# Altium schematic symbol library SCT8-Board.SCHLIB: 149 symbols (part 2 of 4)
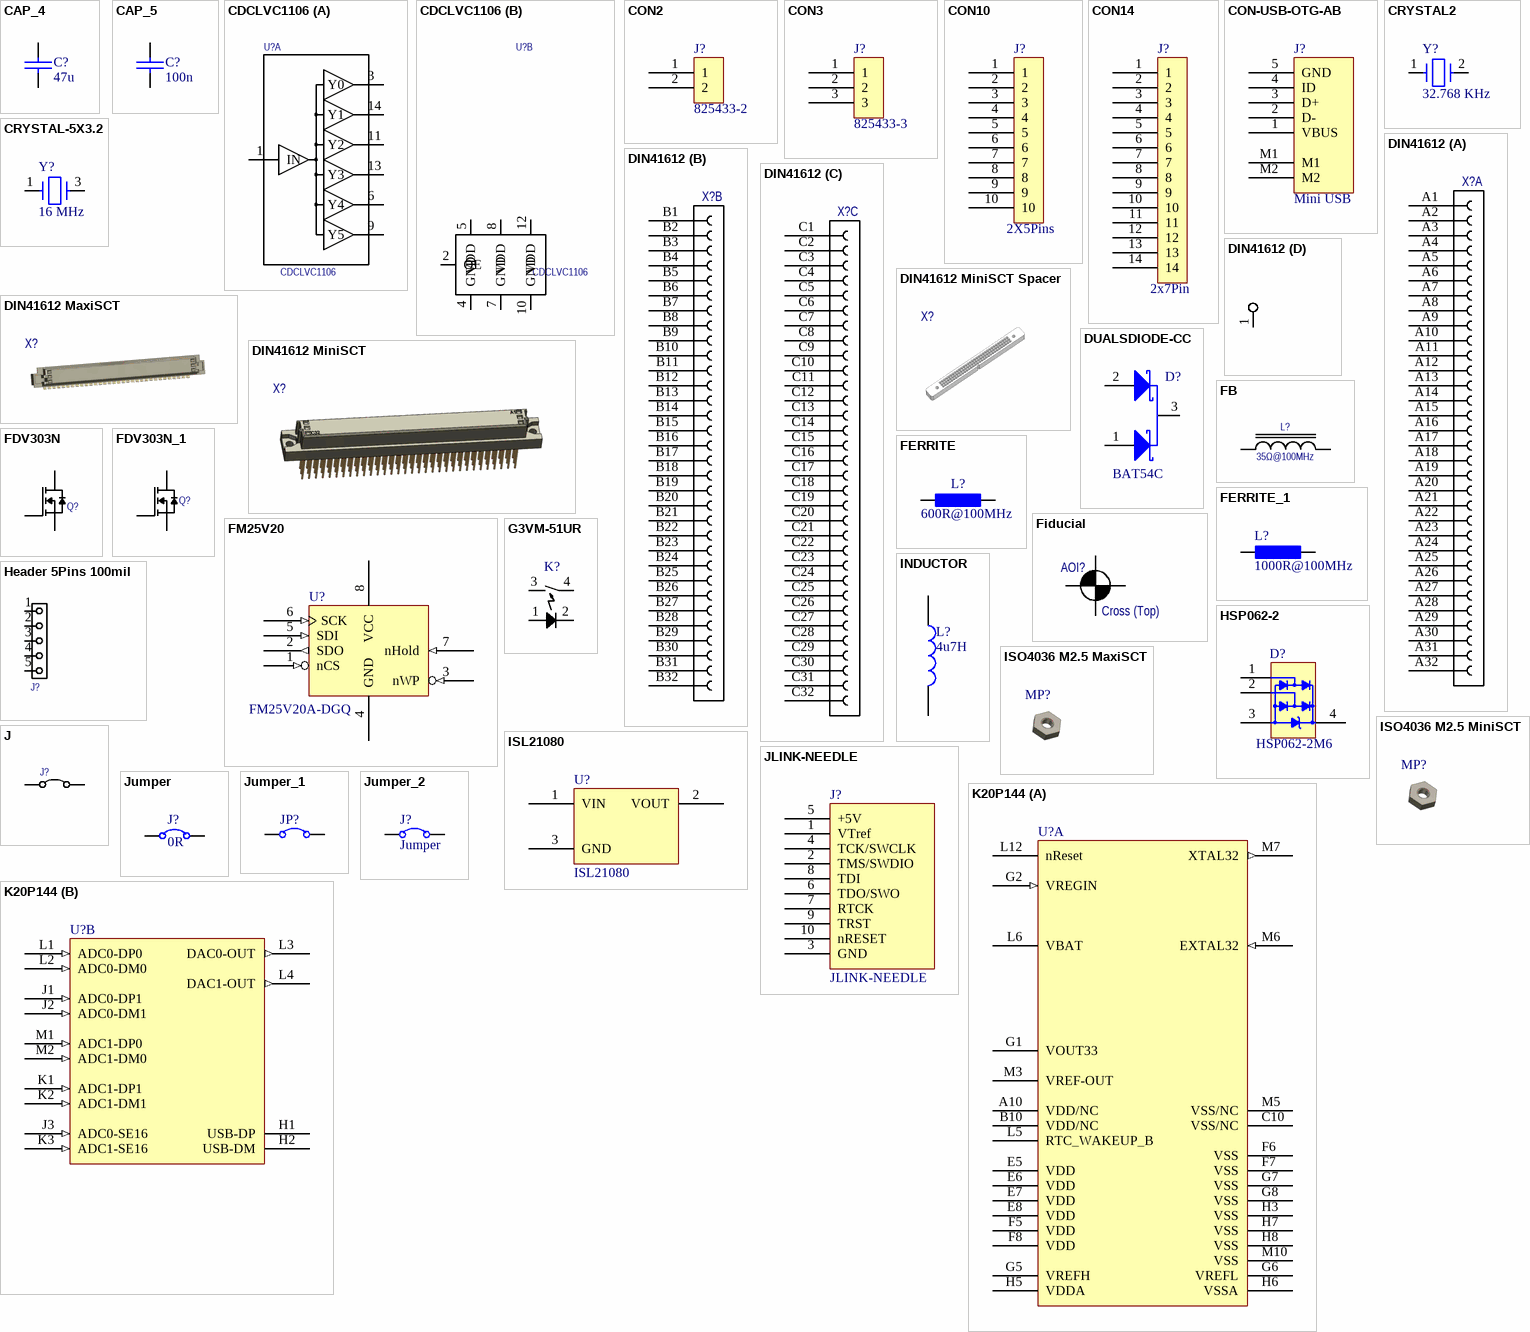
[diagram p18: symbols CAP_4 to K20P144]

## DIN41612 MaxiSCT
designator X?, comment X  (value not drawn)
DIN-SIGNAL R096FS-3,0C1-2; 04. Manufacturer: Harting; 07. Manufacturer  Part Number: 09732966801; 03. Unit Price: 4.33; 13. Created Date/Name: NOV2018 / Hören; System: Connector; 3D-Export: Yes; 01. Distributor: DigiKey; 02. Distributor Part Number: 1195-2893-ND; 11. RoHS: YES; ComponentLink1Description: Info; ComponentLink1URL: https://www.digikey.de/product-detail/en/harting/09732966801/1195-2893-ND/3181477; ComponentLink2Description: DataSheet; ComponentLink2URL: https://b2b.harting.com/files/download/PRD/PDF_TS/0973296X801_100104712DRW068A.pdf
footprint DIN 41612 MaxiSCT (09732966801)

## DIN41612 MiniSCT
designator X?, comment X  (value not drawn)
DIN-SIGNAL C096FPW-13,2C1-1; 04. Manufacturer: Harting; 07. Manufacturer  Part Number: 09032962861; 03. Unit Price: 8.81; 13. Created Date/Name: NOV2018 / Hören; System: Connector; 3D-Export: Yes; 01. Distributor: DigiKey; 02. Distributor Part Number: 1195-1192-ND; 09. Operating Temperature: -40°C ~ 105°C; 11. RoHS: YES; ComponentLink1Description: Info; ComponentLink1URL: https://www.digikey.de/products/en?keywords=09032962861; ComponentLink2Description: DataSheet; ComponentLink2URL: https://b2b.harting.com/files/download/PRD/PDF_TS/0903296X861_100072194DRW085D.pdf
footprint DIN 41612 MiniSCT (09032962861)

## DIN41612 MiniSCT Spacer
designator X?, comment X  (value not drawn)
DIN-SIGNAL C096FPW-13,2C1-1 Spacer; 04. Manufacturer: Likom; 03. Unit Price: 1; 13. Created Date/Name: NOV2018 / Hören; 3D-Export: Yes; 01. Distributor: N/A; 11. RoHS: YES; ComponentLink1Description: Info; ComponentLink1URL: https://www.digikey.de/products/en?keywords=09032962861; ComponentLink2Description: DataSheet; ComponentLink2URL: https://b2b.harting.com/files/download/PRD/PDF_TS/0903296X861_100072194DRW085D.pdf
footprint DIN 41612 MiniSCT Spacer (09032962861)

## DUALSDIODE-CC
designator D?, comment 07. Manufacturer  Part Number: BAT54C  (hidden comment: D)
DIODE ARRAY SCHOTTKY 30V SOT23-3; 04. Manufacturer: ON Semiconductor; POPULATED: yes; 03. Unit Price: 0.23; 3D-Export: No; Temperature Range: -55°C ~ 150°C; 01. Distributor: DigiKey; 02. Distributor Part Number: BAT54CFSCT-ND; 09. Operating Temperature: -55°C ~ 150°C; 11. RoHS: YES; ComponentLink4Description: Info; ComponentLink4URL: https://www.digikey.de/product-detail/en/on-semiconductor/BAT54C/BAT54CFSCT-ND/458929; ComponentLink5Description: DataSheet; ComponentLink5URL: https://media.digikey.com/pdf/Data%20Sheets/ON%20Semiconductor%20PDFs/BAT54(A,C,S).pdf
footprint SOT23
pins: 1 A, 2 K, 3 C

## FB
designator L?, comment value 35Ω@100MHz  (hidden comment: L)
FERRITE BEAD 50 OHM 1206 1LN; 04. Manufacturer: Murata Electronics North America; 07. Manufacturer  Part Number: BLM31PG500SN1L; DC Resistance: 15mΩ; Impedance Tolerance: %; 03. Unit Price: 0.28; 13. Created Date/Name: AUG2018/Hören; 3D-Export: No; Nominal Impedance: 35Ω@100MHz; ComponentLink1Description: Info; ComponentLink1URL: https://www.digikey.de/product-detail/en/murata-electronics-north-america/BLM31PG500SN1L/490-1055-6-ND/1826162; ComponentLink2Description: DataSheet; ComponentLink2URL: https://www.murata.com/en-us/products/productdata/8796739698718/ENFA0006.pdf; 02. Distributor Part Number: 490-1055-6-ND; 09. Operating Temperature: -55°C ~ 125°C; 11. RoHS: YES; 01. Distributor: DigiKey
footprint INDC1206
pins: 1, 2

## FDV303N
designator Q?, comment Q  (value not drawn)
MOSFET N-CH 25V 680MA SOT-23; 04. Manufacturer: ON Semiconductor; 07. Manufacturer  Part Number: FDV303N; 03. Unit Price: 0.41; 13. Created Date/Name: AUG 2018 / Hören; Rds On: 450 mΩ @ id=500mA & Vgs=4.5V; Vgs,th: 1.5V @ 250uA; Power Rating: 350mW; 3D-Export: No; 01. Distributor: DigiKey; 02. Distributor Part Number: FDV303NDKR-ND; 09. Operating Temperature: -55°C ~ 150°C (TJ); 11. RoHS: YES; ComponentLink1Description: Info; ComponentLink1URL: https://www.digikey.de/product-detail/en/on-semiconductor/FDV303N/FDV303NDKR-ND/1630434; ComponentLink2Description: DataSheet; ComponentLink2URL: https://media.digikey.com/pdf/Data%20Sheets/Fairchild%20PDFs/FDV303N.pdf; Vdss: 25V; Id: 680mA
footprint SOT23-3
pins: 1 G, 2 S, 3 D

## FDV303N_1
designator Q?, comment Q  (value not drawn)
MOSFET N-CH 25V 680MA SOT-23; 04. Manufacturer: ON Semiconductor; 07. Manufacturer  Part Number: FDV303N; 03. Unit Price: 0.41; 13. Created Date/Name: AUG 2018 / Hören; Rds On: 450 mΩ @ id=500mA & Vgs=4.5V; Vgs,th: 1.5V @ 250uA; Power Rating: 350mW; 3D-Export: No; 01. Distributor: DigiKey; 02. Distributor Part Number: FDV303NDKR-ND; 09. Operating Temperature: -55°C ~ 150°C (TJ); 11. RoHS: YES; ComponentLink1Description: Info; ComponentLink1URL: https://www.digikey.de/product-detail/en/on-semiconductor/FDV303N/FDV303NDKR-ND/1630434; ComponentLink2Description: DataSheet; ComponentLink2URL: https://media.digikey.com/pdf/Data%20Sheets/Fairchild%20PDFs/FDV303N.pdf; Vdss: 25V; Id: 680mA
footprint SOT23-3
pins: 1 G, 2 S, 3 D

## FERRITE
designator L?, comment value 600R@100MHz  (hidden comment: L)
FERRITE BEAD 600 OHM 0805 1LN; MFR-PN: 742792040; MFR: WUERTH; 04. Manufacturer: Wurth Electronics Inc.; POPULATED: yes; PARAMETERS: Idc=2A, Rdc=0.15R; 03. Unit Price: 0.21; 3D-Export: No; Temperature Range: -55°C ~ 125°C; 07. Manufacturer  Part Number: 742792040; 01. Distributor: DigiKey; 02. Distributor Part Number: 732-1620-6-ND; 09. Operating Temperature: -55°C ~ 125°C; 11. RoHS: YES; ComponentLink4Description: Info; ComponentLink4URL: https://www.digikey.de/products/en/filters/ferrite-beads-and-chips/841?k=742792040&k=&pkeyword=742792040&sv=0&pv7=243&sf=0&quantity=&ColumnSort=0&page=1&pageSize=25; ComponentLink5Description: DataSheet; ComponentLink5URL: https://katalog.we-online.de/pbs/datasheet/742792040.pdf
footprint INDC0805
pins: 1, 2

## FERRITE_1
designator L?, comment 1000R@100MHz
Ferrite Bead; MFR-PN: 742792040; MFR: WUERTH; 04. Manufacturer: Wurth Electronics Inc.; POPULATED: yes; PARAMETERS: I=2A, RDC=0.15R; 07. Manufacturer  Part Number: 742792040
footprint INDC0805
pins: 1, 2

## Fiducial
designator AOI?  Shape: Cross (Top)  (hidden comment: Fiducial)  (no BOM)
Assembly AOI; 13. Created Date/Name: AUG2018/Hören; 3D-Export: No; 01. Distributor: N/A; 02. Distributor Part Number: N/A; 03. Unit Price: N/A; 04. Manufacturer: N/A; 05. Quantity: N/A; 06. Data Sheet: N/A; 07. Manufacturer  Part Number: N/A; 08. Inhouse Stock: N/A; 09. Operating Temperature: N/A; 10. Weight: N/A; 11. RoHS: N/A; 12.UL94 Flammability: N/A; ComponentLink1Description: Info; ComponentLink2Description: Info; ComponentLink3Description: FootPrint
footprint Fiducial Cross
footprint Fiducial Point

## FM25V20
designator U?, comment 07. Manufacturer  Part Number: FM25V20A-DGQ  (hidden comment: U)
IC FRAM 2M SPI 40MHZ 8TDFN; MFR: CYPRESS; 04. Manufacturer: Cypress Semiconductor Corp; POPULATED: yes; 03. Unit Price: 15.14; 3D-Export: No; MFR-PN: FM25V20A-DGQ; Temperature Range: -40°C/+85°C; 01. Distributor: DigiKey; 02. Distributor Part Number: 428-3378-5-ND; 09. Operating Temperature: -40°C ~ 105°C (TA); 11. RoHS: YES; ComponentLink4Description: Info; ComponentLink4URL: https://www.digikey.de/product-detail/en/cypress-semiconductor-corp/FM25V20A-DGQ/428-3378-5-ND/5113877; ComponentLink5Description: DataSheet; ComponentLink5URL: https://www.cypress.com/file/136076/download
footprint TDFN8
pins: 1 nCS (in), 2 SDO (out), 3 nWP (in), 4 GND (power), 5 SDI (in), 6 SCK (in), 7 nHold (in), 8 VCC (power)

## G3VM-51UR
designator K?, comment K  (value not drawn)
SSR RELAY SPST-NO 300MA 0-50V; 04. Manufacturer: Omron Electronics Inc-EMC Div; 07. Manufacturer  Part Number: G3VM-51UR(TR05); 03. Unit Price: 5.6; 01. Distributor: DigiKey; 02. Distributor Part Number: Z4385TR-ND; ComponentLink1Description: Info; ComponentLink1URL: https://www.digikey.de/product-detail/de/omron-electronics-inc-emc-div/G3VM-51UR-TR05/Z4385TR-ND/5039690; ComponentLink2Description: DataSheet; ComponentLink2URL: https://omronfs.omron.com/en_US/ecb/products/pdf/g3vm_41ur10_51ur.pdf
footprint VSON4 (Very Small Outline Non-leaded 4 terminals)
pins: 1 +, 2 -, 3 CA, 4 CB

## Header 5Pins 100mil
designator J?, comment J  (value not drawn)
CONN HEADER VERT 5POS 2.54MM; 04. Manufacturer: Samtec Inc.; 07. Manufacturer  Part Number: HMTSW-105-07-G-S-240; 03. Unit Price: 0.42; 13. Created Date/Name: AUG2018/Hören; 3D-Export: No; 01. Distributor: Samtec Inc.; 02. Distributor Part Number: HMTSW-105-07-G-S-240; 11. RoHS: YES; ComponentLink1Description: Info; ComponentLink1URL: https://www.samtec.com/products/hmtsw-105-07-g-s-240; ComponentLink2Description: DataSheet; ComponentLink2URL: http://suddendocs.samtec.com/catalog_english/hmtsw.pdf
footprint Header 100mil 5x1 (HMTSW-105-07-G-S-240)
pins: 1, 2, 3, 4, 5

## HSP062-2
designator D?, comment 07. Manufacturer  Part Number: HSP062-2M6  (hidden comment: D)
TVS DIODE 3V 18V 6UQFN; MFR: ST; 04. Manufacturer: STMicroelectronics; POPULATED: yes; 03. Unit Price: 0.243; 3D-Export: No; MFR-PN: HSP062-2M6; 01. Distributor: DigiKey; 02. Distributor Part Number: 497-12962-6-ND; 09. Operating Temperature: -40°C ~ 150°C (TJ); 11. RoHS: YES; ComponentLink4Description: Info; ComponentLink4URL: https://www.digikey.de/products/en/circuit-protection/tvs-diodes/144?k=HSP062-2M6&k=&pkeyword=HSP062-2M6&sv=0&pv7=243&sf=0&quantity=&ColumnSort=0&page=1&pageSize=25; ComponentLink5Description: DataSheet; ComponentLink5URL: https://www.st.com/content/ccc/resource/technical/document/datasheet/90/b8/52/a8/c1/74/40/7f/DM00047941.pdf/files/DM00047941.pdf/jcr:content/translations/en.DM00047941.pdf
footprint ST-uQFN6 (Footprint not found)
pins: 1 I/O1, 2 I/O2, 3 I/O1, 4 VBUS

## INDUCTOR
designator L?, comment value 4u7H  (hidden comment: L)
FIXED IND 4.7UH 2.8A 65 MOHM SMD; MFR-PN: 7447786004; MFR: WUERTH; 04. Manufacturer: Wurth Electronics Inc.; POPULATED: yes; Parameters: Isat=2.8A, Idc=2.8A, DRC=65mR; 03. Unit Price: 2.33; 3D-Export: No; 01. Distributor: DigiKey; 02. Distributor Part Number: 732-3296-6-ND; 07. Manufacturer  Part Number: 7447786004; 09. Operating Temperature: -40°C ~ 125°C; 11. RoHS: YES; ComponentLink1Description: Info; ComponentLink1URL: https://www.digikey.de/products/en/inductors-coils-chokes/fixed-inductors/71?k=7447786004&k=&pkeyword=7447786004&sv=0&pv7=243&sf=0&quantity=&ColumnSort=0&page=1&pageSize=25; ComponentLink2Description: DataSheet; ComponentLink2URL: https://katalog.we-online.de/pbs/datasheet/7447786004.pdf
footprint WE-PD-XS
pins: 1, 2

## ISL21080
designator U?, comment NicName: ISL21080  (hidden comment: U)
IC VREF SERIES 1.25V SOT23-3; MFR-PN: ISL21080DIH312Z-TK; MFR: Intersil; 04. Manufacturer: Renesas Electronics America Inc.; POPULATED: yes; 03. Unit Price: 1.43; 3D-Export: No; Temperature Range: -40°C/+85°C; 01. Distributor: DigiKey; 02. Distributor Part Number: ISL21080DIH312Z-TKDKR-ND; 07. Manufacturer  Part Number: ISL21080DIH312Z-TK; 09. Operating Temperature: -40°C ~ 85°C (TA); 11. RoHS: YES; ComponentLink4Description: Info; ComponentLink4URL: https://www.digikey.de/products/en/integrated-circuits-ics/pmic-voltage-reference/693?k=ISL21080DIH312Z-TK&k=&pkeyword=ISL21080DIH312Z-TK&sv=0&pv7=243&sf=0&quantity=&ColumnSort=0&page=1&pageSize=25; ComponentLink5Description: DataSheet; ComponentLink5URL: http://www.intersil.com/content/dam/Intersil/documents/isl2/isl21080.pdf
footprint SOT23
pins: 1 VIN (power), 2 VOUT (hiz), 3 GND (power)

## ISO4036 M2.5 MaxiSCT
designator MP?  (value not drawn)
ISO4036 M2.5; 04. Manufacturer: Likom; 07. Manufacturer  Part Number: ISO4036_M2.5; 03. Unit Price: 1
footprint ISO4036 M2.5 - MaxiSCT

## ISO4036 M2.5 MiniSCT
designator MP?  (value not drawn)
ISO4036 M2.5; 04. Manufacturer: Likom; 07. Manufacturer  Part Number: ISO4036_M2.5; 03. Unit Price: 1
footprint ISO4036 M2.5 - MINISCT

## J
designator J?  (value not drawn)
Jumper; Power Rating: 1/16W; Voltage Rating: 50V; Value: 0; ComponentLink1Description: Info; 09. Operating Temperature: -55°C ~ 155°C; 11. RoHS: YES; 01. Distributor: DigiKey; ComponentLink2Description: DataSheet; Type: Thick Film; Temperature Range: -55°C/+125°C; Package: pkg
simulation model RESISTOR (Resistor)
signal-integrity model Res
footprint RESC0201 (Chip Resistor, Body 0.6x0.3mm (LxW typ) [0201], IPC High Density)
footprint RESC0402 (Chip Resistor, Body 1.1x0.5mm (LxW typ) [0402], IPC High Density)
footprint RESC0603 (Chip Resistor, Body 1.6x0.8mm (LxW typ) [0603], IPC High Density)
footprint RESC0805 (Chip Resistor, Body 2.0x1.3mm (LxW typ) [0805], IPC High Density)
footprint RESC1206 (Chip Resistor, Body 3.2x1.6mm (LxW typ) [1206], IPC High Density)
pins: 1, 2

## JLINK-NEEDLE
designator J?, comment NicName: JLINK-NEEDLE  (hidden comment: J)  (no BOM)
10-PIN NEEDLE FOOTPRINT; POPULATED: yes; 3D-Export: No; ComponentLink4Description: Info; ComponentLink4URL: https://www.digikey.de/product-detail/en/segger-microcontroller-systems/8.06.05-10-PIN-NEEDLE-ADAPTER/8.06.0510-PINNEEDLEADAPTER-ND/3202465; ComponentLink5Description: DataSheet; ComponentLink5URL: https://www.segger.com/products/debug-probes/j-link/accessories/adapters/6-pin-needle-adapter/#tab-1647-4
footprint JLINK-NEEDLE
pins: 1 VTref, 2 TMS/SWDIO, 3 GND, 4 TCK/SWCLK, 5 +5V, 6 TDO/SWO, 7 RTCK, 8 TDI, 9 TRST, 10 nRESET

## Jumper
designator J?, comment value 0R  (hidden comment: J)
RES SMD 0 OHM JUMPER 1/10W 0603; 04. Manufacturer: Yageo; 07. Manufacturer  Part Number: RC0603JR-070RL; POPULATED: yes; 03. Unit Price: 0.09; 3D-Export: No; 01. Distributor: DigiKey; 02. Distributor Part Number: 311-0.0GRDKR-ND; 09. Operating Temperature: -55°C ~ 155°C; 11. RoHS: YES; ComponentLink4Description: Info; ComponentLink4URL: https://www.digikey.de/product-detail/en/yageo/RC0603JR-070RL/311-0.0GRDKR-ND/732569; ComponentLink5Description: DataSheet; ComponentLink5URL: http://www.yageo.com/documents/recent/PYu-RC_Group_51_RoHS_L_10.pdf
footprint JumperSMD_0603 (Chip Resistor, Body 1.6x0.8mm (LxW typ), IPC High Density)
pins: 1, 2

## Jumper_1
designator JP?, comment Jumper  (value not drawn)  (no BOM)
MFR-PN: 825433-2; MFR: TYCO; POPULATED: yes
footprint JumperSMD (Chip Resistor, Body 1.6x0.8mm (LxW typ), IPC High Density)
pins: 1, 2

## Jumper_2
designator J?, comment Jumper  (no BOM)
POPULATED: yes
footprint TSW-1X2
footprint JumperSMD
pins: 1, 2

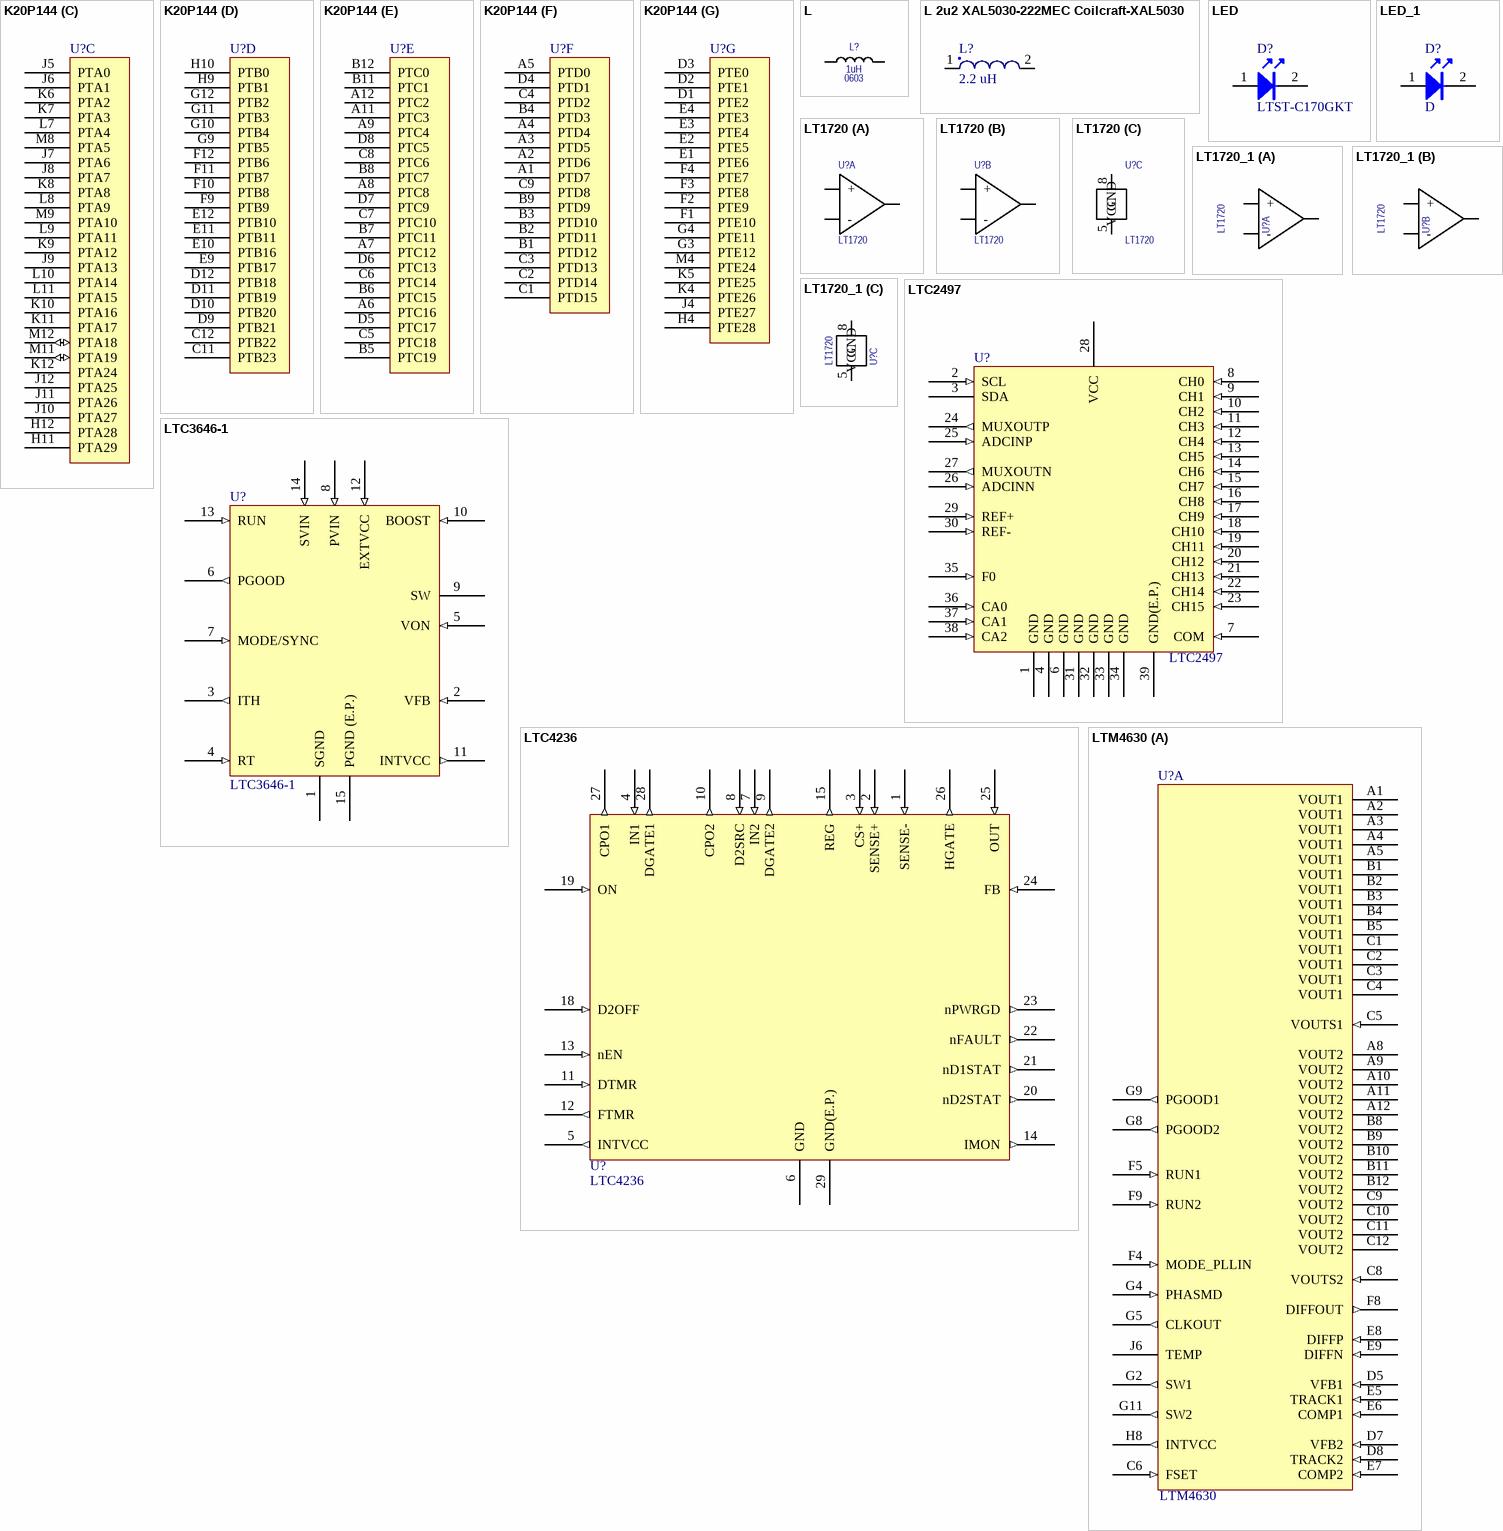
[diagram p5: symbols K20P144 to LTM4630]

## K20P144
designator U?
IC MCU 32BIT 512KB FLASH 144BGA; MFR-PN: MK20DN512VMD10; MFR: FREESCALE; 04. Manufacturer: NXP USA Inc.; POPULATED: yes; 03. Unit Price: 10.27; 3D-Export: No; 01. Distributor: DigiKey; 02. Distributor Part Number: MK20DN512VMD10-ND; 07. Manufacturer  Part Number: MK20DN512VMD10; 09. Operating Temperature: -40°C ~ 105°C (TA); 11. RoHS: YES
footprint MAPBGA144 (NXP BGA, 144-Leads, Body 13.00x13.00mmx1.70mm, Pitch 1.00mm (Document No: 98ASA00222D))
part A pins: A10 VDD/NC, B10 VDD/NC, C10 VSS/NC, E5 VDD (power), E6 VDD (power), E7 VDD (power), E8 VDD (power), F5 VDD (power), F6 VSS (power), F7 VSS (power), F8 VDD (power), G1 VOUT33, G2 VREGIN (in), G5 VREFH (power), G6 VREFL (power), G7 VSS (power), G8 VSS (power), H3 VSS (power), H5 VDDA (power), H6 VSSA (power), H7 VSS (power), H8 VSS (power), L5 RTC_WAKEUP_B, L6 VBAT (power), L12 nReset, M3 VREF-OUT, M5 VSS/NC, M6 EXTAL32 (in), M7 XTAL32 (out), M10 VSS (power)
part B pins: H1 USB-DP (hiz), H2 USB-DM (hiz), J1 ADC0-DP1 (in), J2 ADC0-DM1 (in), J3 ADC0-SE16 (in), K1 ADC1-DP1 (in), K2 ADC1-DM1 (in), K3 ADC1-SE16 (in), L1 ADC0-DP0 (in), L2 ADC0-DM0 (in), L3 DAC0-OUT (out), L4 DAC1-OUT (out), M1 ADC1-DP0 (in), M2 ADC1-DM0 (in)
part C pins: H11 PTA29 (hiz), H12 PTA28 (hiz), J5 PTA0 (hiz), J6 PTA1 (hiz), J7 PTA6 (hiz), J8 PTA7 (hiz), J9 PTA13 (hiz), J10 PTA27 (hiz), J11 PTA26 (hiz), J12 PTA25 (hiz), K6 PTA2 (hiz), K7 PTA3 (hiz), K8 PTA8 (hiz), K9 PTA12 (hiz), K10 PTA16 (hiz), K11 PTA17 (hiz), K12 PTA24 (hiz), L7 PTA4 (hiz), L8 PTA9 (hiz), L9 PTA11 (hiz), L10 PTA14 (hiz), L11 PTA15 (hiz), M8 PTA5 (hiz), M9 PTA10 (hiz), M11 PTA19 (io), M12 PTA18 (io)
part D pins: C11 PTB23 (hiz), C12 PTB22 (hiz), D9 PTB21 (hiz), D10 PTB20 (hiz), D11 PTB19 (hiz), D12 PTB18 (hiz), E9 PTB17 (hiz), E10 PTB16 (hiz), E11 PTB11 (hiz), E12 PTB10 (hiz), F9 PTB9 (hiz), F10 PTB8 (hiz), F11 PTB7 (hiz), F12 PTB6 (hiz), G9 PTB5 (hiz), G10 PTB4 (hiz), G11 PTB3 (hiz), G12 PTB2 (hiz), H9 PTB1 (hiz), H10 PTB0 (hiz)
part E pins: A6 PTC16 (hiz), A7 PTC12 (hiz), A8 PTC8 (hiz), A9 PTC4 (hiz), A11 PTC3 (hiz), A12 PTC2 (hiz), B5 PTC19 (hiz), B6 PTC15 (hiz), B7 PTC11 (hiz), B8 PTC7 (hiz), B11 PTC1 (hiz), B12 PTC0 (hiz), C5 PTC18 (hiz), C6 PTC14 (hiz), C7 PTC10 (hiz), C8 PTC6 (hiz), D5 PTC17 (hiz), D6 PTC13 (hiz), D7 PTC9 (hiz), D8 PTC5 (hiz)
part F pins: A1 PTD7 (hiz), A2 PTD6 (hiz), A3 PTD5 (hiz), A4 PTD4 (hiz), A5 PTD0 (hiz), B1 PTD12 (hiz), B2 PTD11 (hiz), B3 PTD10 (hiz), B4 PTD3 (hiz), B9 PTD9 (hiz), C1 PTD15 (hiz), C2 PTD14 (hiz), C3 PTD13 (hiz), C4 PTD2 (hiz), C9 PTD8 (hiz), D4 PTD1 (hiz)
part G pins: D1 PTE2 (hiz), D2 PTE1 (hiz), D3 PTE0 (hiz), E1 PTE6 (hiz), E2 PTE5 (hiz), E3 PTE4 (hiz), E4 PTE3 (hiz), F1 PTE10 (hiz), F2 PTE9 (hiz), F3 PTE8 (hiz), F4 PTE7 (hiz), G3 PTE12 (hiz), G4 PTE11 (hiz), H4 PTE28 (hiz), J4 PTE27 (hiz), K4 PTE26 (hiz), K5 PTE25 (hiz), M4 PTE24 (hiz)

## L
designator L?  value 1uH  Package: 0603  (hidden comment: L)
FIXED IND 1UH ±5% 280MA 940 MOHM 0603; 04. Manufacturer: Abracon LLC; 07. Manufacturer  Part Number: AISC-0603F-1R0J-T; DC Resistance: 940mΩ; 03. Unit Price: 0.33; ComponentLink1Description: Info; ComponentLink1URL: https://www.digikey.de/product-detail/en/abracon-llc/AISC-0603F-1R0J-T/535-AISC-0603F-1R0J-TDKR-ND/11565402; ComponentLink2Description: DataSheet; 02. Distributor Part Number: 535-AISC-0603F-1R0J-TDKR-ND; 09. Operating Temperature: -55°C ~ 85°C; 11. RoHS: YES; 01. Distributor: DigiKey; Tolerance: ±5%
footprint INDC0603
footprint INDC0805
footprint INDC1206
pins: 1, 2

## L 2u2 XAL5030-222MEC Coilcraft-XAL5030
designator L?, comment 2.2 uH
Shielded Power Inductor XAL5030, L=2.2 µH; MFR-PN: XAL5030-222MEC; MFR: Coilcraft; partnumber: 20081302; Parameters: Ir=7.2A, Isat=6A(10%), Rdc=14.5mR; reviewer: koa; T op max.: +125 °C; T op min.: -40 °C; T sto max.: +165 °C; T sto min.: -55 °C; created by: Moerz; package: Coilcraft-XAL5030; articlenumber-schoelly: N/A; Value: 2.2 uH; ComponentLink1Description: Datasheet; ComponentLink1URL: https://www.coilcraft.com/getmedia/49bc46c8-4b2c-45b9-9b6c-2eaa235ea698/xal50xx.pdf; Supplier 1: Mouser; Supplier Part Number 1: 994-XAL5030-222MEC; 04. Manufacturer: Coilcraft; 07. Manufacturer  Part Number: XAL5030-222MEC
footprint Coilcraft-XAL5030
pins: 1, 2

## LED
designator D?, comment 07. Manufacturer  Part Number: LTST-C170GKT  (hidden comment: D)
LED GREEN CLEAR SMD; 04. Manufacturer: Lite-On Inc.; POPULATED: yes; 03. Unit Price: 0.29; 3D-Export: No; 01. Distributor: DigiKey; 02. Distributor Part Number: 160-1179-6-ND; 11. RoHS: YES; ComponentLink4Description: Info; ComponentLink4URL: https://www.digikey.de/products/en/optoelectronics/led-indication-discrete/105?k=LTST-C170GKT&k=&pkeyword=LTST-C170GKT&sv=0&pv7=243&sf=0&quantity=&ColumnSort=0&page=1&pageSize=25; ComponentLink5Description: DataSheet; ComponentLink5URL: https://media.digikey.com/pdf/Data%20Sheets/Lite-On%20PDFs/LTST-C170GKT.pdf
footprint LED0603G (LED, 0603, Green)
pins: 1 A, 2 K

## LED_1
designator D?, comment D
LED GREEN CLEAR SMD; MFR-PN: LTST-C190KGKT; MFR: LITEON; 04. Manufacturer: Lite-On Inc.; 07. Manufacturer  Part Number: LTST-C170GKT; POPULATED: yes; TempRange: -55*C - +85°C
footprint LED0603G (LED, 0603, Green)
pins: 1 A, 2 K

## LT1720
designator U?, comment NicName: LT1720  (hidden comment: U)
IC COMP R-RINOUT DUAL 8-SOIC; 04. Manufacturer: Linear Technology/Analog Devices; 07. Manufacturer  Part Number: LT1720IS8#TRPBF; 03. Unit Price: 7.15; 13. Created Date/Name: AUG 2018 / Hören; Design: AWGDIG; 3D-Export: No; 01. Distributor: DigiKey; 02. Distributor Part Number: LT1720IS8#TRPBFDKR-ND; 09. Operating Temperature: -40°C ~ 85°C; 11. RoHS: YES; ComponentLink1Description: Info; ComponentLink1URL: https://www.digikey.de/products/en/integrated-circuits-ics/linear-comparators/692?k=LT1720&k=&pkeyword=LT1720&pv7=243&sf=0&quantity=&ColumnSort=0&page=1&pageSize=25; ComponentLink2Description: DataSheet; ComponentLink2URL: https://www.analog.com/media/en/technical-documentation/data-sheets/17201fc.pdf
footprint SOIC8 (R-8) (Generic 8 lead SOIC Narrow Body)
part A pins: 1 +, 2 -, 7 OUTA
part B pins: 3 -, 4 +, 6 OUTB
part C pins: 5 GND, 8 VCC

## LT1720_1
designator U?, comment NicName: LT1720  (hidden comment: U)
IC COMP R-RINOUT DUAL 8-SOIC; 04. Manufacturer: Linear Technology/Analog Devices; 07. Manufacturer  Part Number: LT1720IS8#TRPBF; 03. Unit Price: 7.15; 13. Created Date/Name: AUG 2018 / Hören; Design: AWGDIG; 3D-Export: No; 01. Distributor: DigiKey; 02. Distributor Part Number: LT1720IS8#TRPBFDKR-ND; 09. Operating Temperature: -40°C ~ 85°C; 11. RoHS: YES; ComponentLink1Description: Info; ComponentLink1URL: https://www.digikey.de/products/en/integrated-circuits-ics/linear-comparators/692?k=LT1720&k=&pkeyword=LT1720&pv7=243&sf=0&quantity=&ColumnSort=0&page=1&pageSize=25; ComponentLink2Description: DataSheet; ComponentLink2URL: https://www.analog.com/media/en/technical-documentation/data-sheets/17201fc.pdf
footprint SOIC8 (R-8) (Generic 8 lead SOIC Narrow Body)
part A pins: 1 +, 2 -, 7 OUTA
part B pins: 3 -, 4 +, 6 OUTB
part C pins: 5 GND, 8 VCC

## LTC2497
designator U?, comment value LTC2497  (hidden comment: U)
16-Bit 8-/16-Channel SigmaDelta ADC with Easy Drive Input Current Cancellation and I2C Interface; MFR-PN: LTC2497IUHF#PBF; MFR: LINEAR; 04. Manufacturer: Analog Devices; 07. Manufacturer  Part Number: LTC2497IUHF#PBF  MAX6070BAUT25+T; POPULATED: yes; 3D-Export: No; 11. RoHS: YES; ComponentLink1Description: Info; ComponentLink2Description: DataSheet; ComponentLink2URL: https://www.analog.com/media/en/technical-documentation/data-sheets/2497fb.pdf
footprint LT-UHF38 (Footprint not found)
pins: 1 GND (power), 2 SCL (in), 3 SDA (hiz), 4 GND (power), 6 GND (power), 7 COM (in), 8 CH0 (in), 9 CH1 (in), 10 CH2 (in), 11 CH3 (in), 12 CH4 (in), 13 CH5 (in), 14 CH6 (in), 15 CH7 (in), 16 CH8 (in), 17 CH9 (in), 18 CH10 (in), 19 CH11 (in), 20 CH12 (in), 21 CH13 (in), 22 CH14 (in), 23 CH15 (in), 24 MUXOUTP (out), 25 ADCINP (in), 26 ADCINN (in), 27 MUXOUTN (out), 28 VCC (power), 29 REF+ (in), 30 REF- (in), 31 GND (power), 32 GND (power), 33 GND (power), 34 GND (power), 35 F0 (in), 36 CA0 (in), 37 CA1 (in), 38 CA2 (in), 39 GND(E.P.) (power)

## LTC3646-1
designator U?, comment NicName: LTC3646-1  (hidden comment: U)
IC REG BUCK ADJ 1A SYNC 14DFN; MFR-PN: LTC3646EDE-1#PBF; MFR: LINEAR; 04. Manufacturer: Linear Technology/Analog Devices; POPULATED: yes; 03. Unit Price: 6.13; 3D-Export: No; 01. Distributor: DigiKey; 02. Distributor Part Number: LTC3646EDE-1#PBF-ND; 07. Manufacturer  Part Number: LTC3646EDE-1#PBF; 09. Operating Temperature: -40°C ~ 150°C (TJ); 11. RoHS: YES; ComponentLink1Description: Info; ComponentLink1URL: https://www.digikey.de/products/en?keywords=LTC3646EDE-1%23PBF; ComponentLink2Description: DataSheet; ComponentLink2URL: http://www.linear.com/docs/42459
footprint DE14
pins: 1 SGND (power), 2 VFB (in), 3 ITH (out), 4 RT (in), 5 VON (in), 6 PGOOD (out), 7 MODE/SYNC (in), 8 PVIN (in), 9 SW (hiz), 10 BOOST (in), 11 INTVCC (out), 12 EXTVCC (in), 13 RUN (in), 14 SVIN (in), 15 PGND (E.P.) (power)

## LTC4236
designator U?, comment NicName: LTC4236  (hidden comment: U)
Dual Ideal Diode-OR and Single Hot Swap Controller with Current Monitor, Auto-Retry after Fault; MFR-PN: LTC4236IUFD-2#PBF; MFR: ANALOG DEVICES; 04. Manufacturer: Linear Technology/Analog Devices; 07. Manufacturer  Part Number: LTC4229IUFD#PBF; POPULATED: yes; 03. Unit Price: 8.97; Value: LTC4236; 3D-Export: No; 01. Distributor: Mouser; 02. Distributor Part Number: 584-LTC4236IUFD-2PBF; 09. Operating Temperature: -40°C ~ 85°C; 11. RoHS: YES; ComponentLink4Description: Info; ComponentLink5Description: DataSheet; ComponentLink5URL: https://www.analog.com/media/en/technical-documentation/data-sheets/4236f.pdf
footprint LT-UFD28-4mmx5mm (Footprint not found)
pins: 1 SENSE- (in), 2 SENSE+ (in), 3 CS+ (in), 4 IN1 (in), 5 INTVCC (out), 6 GND (power), 7 IN2 (in), 8 D2SRC (in), 9 DGATE2 (out), 10 CPO2 (out), 11 DTMR (in), 12 FTMR (out), 13 nEN (in), 14 IMON (out), 15 REG (out), 18 D2OFF (in), 19 ON (in), 20 nD2STAT (out), 21 nD1STAT (out), 22 nFAULT (out), 23 nPWRGD (out), 24 FB (in), 25 OUT (in), 26 HGATE (out), 27 CPO1 (out), 28 DGATE1 (out), 29 GND(E.P.) (power)

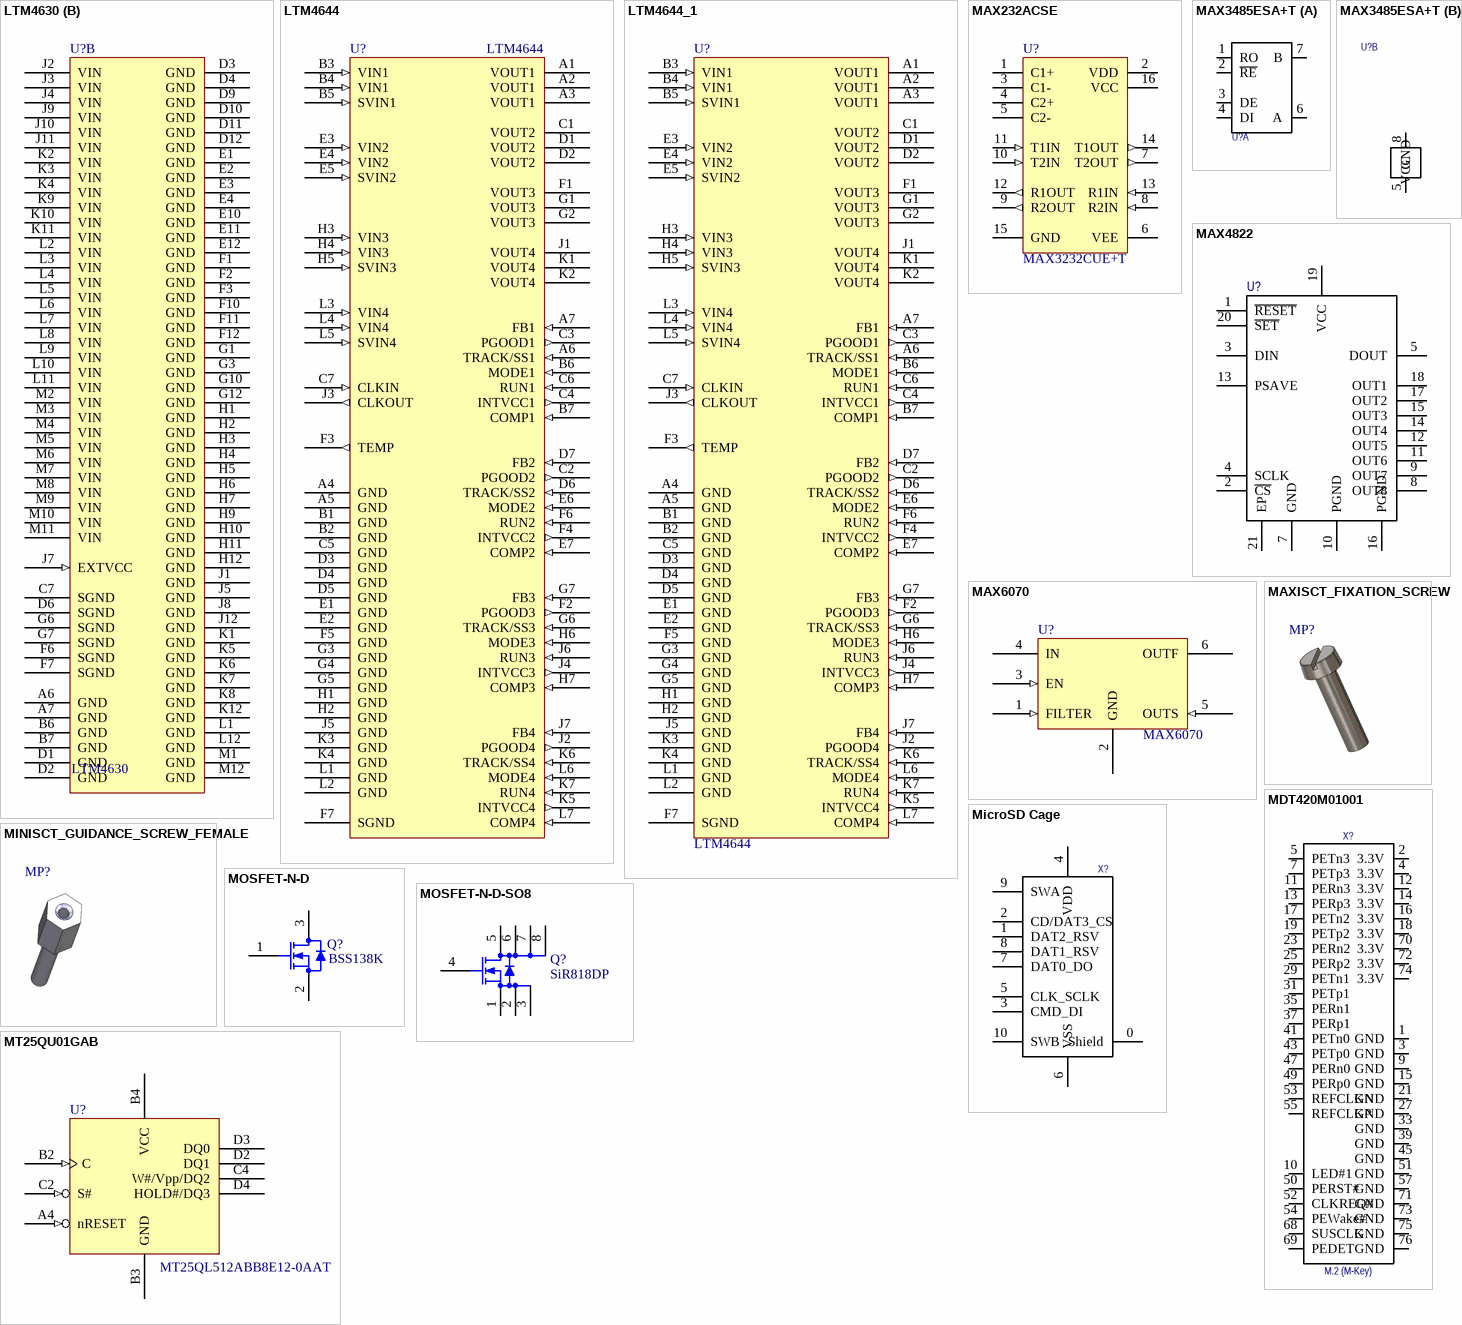
[diagram p6: symbols LTM4630 to MT25QU01GAB]

## LTM4630
designator U?, comment NicName: LTM4630  (hidden comment: U)
DC DC CNVRTR 0.6-1.8V 0.6-1.8V; MFR-PN: LTM4630EY#PBF; MFR: LINEAR TECHNOLOGY; 04. Manufacturer: Linear Technology/Analog Devices; STUFFED: yes; 03. Unit Price: 55.80; 3D-Export: No; 01. Distributor: DigiKey; 02. Distributor Part Number: LTM4630EY#PBF-ND; 07. Manufacturer  Part Number: LTM4630EY#PBF; 09. Operating Temperature: -40°C ~ 125°C; 11. RoHS: YES; ComponentLink4Description: Info; ComponentLink4URL: https://www.digikey.de/products/en?keywords=LTM4630EY%23PBF; ComponentLink5Description: DataSheet; ComponentLink5URL: https://www.analog.com/media/en/technical-documentation/data-sheets/4630fa.pdf
footprint LTM4630 (Footprint not found)
part A pins: A1 VOUT1 (power), A2 VOUT1 (power), A3 VOUT1 (power), A4 VOUT1 (power), A5 VOUT1 (power), A8 VOUT2 (power), A9 VOUT2 (power), A10 VOUT2 (power), A11 VOUT2 (power), A12 VOUT2 (power), B1 VOUT1 (power), B2 VOUT1 (power), B3 VOUT1 (power), B4 VOUT1 (power), B5 VOUT1 (power), B8 VOUT2 (power), B9 VOUT2 (power), B10 VOUT2 (power), B11 VOUT2 (power), B12 VOUT2 (power), C1 VOUT1 (power), C2 VOUT1 (power), C3 VOUT1 (power), C4 VOUT1 (power), C5 VOUTS1 (in), C6 FSET (in), C8 VOUTS2 (in), C9 VOUT2 (power), C10 VOUT2 (power), C11 VOUT2 (power), C12 VOUT2 (power), D5 VFB1 (in), D7 VFB2 (in), D8 TRACK2 (in), E5 TRACK1 (in), E6 COMP1 (in), E7 COMP2 (in), E8 DIFFP (in), E9 DIFFN (in), F4 MODE_PLLIN (in), F5 RUN1 (in), F8 DIFFOUT (out), F9 RUN2 (in), G2 SW1 (out), G4 PHASMD (in), G5 CLKOUT (out), G8 PGOOD2 (out), G9 PGOOD1 (out), G11 SW2 (out), H8 INTVCC (out), J6 TEMP
part B pins: A6 GND (power), A7 GND (power), B6 GND (power), B7 GND (power), C7 SGND (power), D1 GND (power), D2 GND (power), D3 GND (power), D4 GND (power), D6 SGND (power), D9 GND (power), D10 GND (power), D11 GND (power), D12 GND (power), E1 GND (power), E2 GND (power), E3 GND (power), E4 GND (power), E10 GND (power), E11 GND (power), E12 GND (power), F1 GND (power), F2 GND (power), F3 GND (power), F6 SGND (power), F7 SGND (power), F10 GND (power), F11 GND (power), F12 GND (power), G1 GND (power), G3 GND (power), G6 SGND (power), G7 SGND (power), G10 GND (power), G12 GND (power), H1 GND (power), H2 GND (power), H3 GND (power), H4 GND (power), H5 GND (power), H6 GND (power), H7 GND (power), H9 GND (power), H10 GND (power), H11 GND (power), H12 GND (power), J1 GND (power), J2 VIN (power), J3 VIN (power), J4 VIN (power), J5 GND (power), J7 EXTVCC (in), J8 GND (power), J9 VIN (power), J10 VIN (power), J11 VIN (power), J12 GND (power), K1 GND (power), K2 VIN (power), K3 VIN (power), K4 VIN (power), K5 GND (power), K6 GND (power), K7 GND (power), K8 GND (power), K9 VIN (power), K10 VIN (power), K11 VIN (power), K12 GND (power), L1 GND (power), L2 VIN (power), L3 VIN (power), L4 VIN (power), L5 VIN (power), L6 VIN (power), L7 VIN (power), L8 VIN (power), L9 VIN (power), L10 VIN (power), L11 VIN (power), L12 GND (power), M1 GND (power), M2 VIN (power), M3 VIN (power), M4 VIN (power), M5 VIN (power), M6 VIN (power), M7 VIN (power), M8 VIN (power), M9 VIN (power), M10 VIN (power), M11 VIN (power), M12 GND (power)

## LTM4644
designator U?, comment NicName: LTM4644  (hidden comment: U)
DC DC CONVERTER 4X0.6-5.5V; MFR-PN: LTM4644EY#PBF; MFR: LINEAR TECHNOLOGY; 04. Manufacturer: Linear Technology/Analog Devices; POPULATED: yes; 03. Unit Price: 39.30; 3D-Export: No; 01. Distributor: DigiKey; 02. Distributor Part Number: LTM4644EY#PBF-ND; 07. Manufacturer  Part Number: LTM4644EY#PBF; 09. Operating Temperature: -40°C ~ 125°C; 11. RoHS: YES; ComponentLink4Description: Info; ComponentLink4URL: https://www.digikey.de/products/en?keywords=LTM4644EY%23PBF; ComponentLink5Description: DataSheet; ComponentLink5URL: http://www.analog.com/media/en/technical-documentation/data-sheets/4644fe.pdf
footprint LTM4644 (Footprint not found)
pins: A1 VOUT1, A2 VOUT1, A3 VOUT1, A4 GND (power), A5 GND (power), A6 TRACK/SS1 (in), A7 FB1 (in), B1 GND (power), B2 GND (power), B3 VIN1 (in), B4 VIN1 (in), B5 SVIN1 (in), B6 MODE1 (in), B7 COMP1 (in), C1 VOUT2, C2 PGOOD2 (out), C3 PGOOD1 (out), C4 INTVCC1 (out), C5 GND (power), C6 RUN1 (in), C7 CLKIN (in), D1 VOUT2, D2 VOUT2, D3 GND (power), D4 GND (power), D5 GND (power), D6 TRACK/SS2 (in), D7 FB2 (in), E1 GND (power), E2 GND (power), E3 VIN2 (in), E4 VIN2 (in), E5 SVIN2 (in), E6 MODE2 (in), E7 COMP2 (in), F1 VOUT3, F2 PGOOD3 (out), F3 TEMP (out), F4 INTVCC2 (out), F5 GND (power), F6 RUN2 (in), F7 SGND (power), G1 VOUT3, G2 VOUT3, G3 GND (power), G4 GND (power), G5 GND (power), G6 TRACK/SS3 (in), G7 FB3 (in), H1 GND (power), H2 GND (power), H3 VIN3 (in), H4 VIN3 (in), H5 SVIN3 (in), H6 MODE3 (in), H7 COMP3 (in), J1 VOUT4, J2 PGOOD4 (out), J3 CLKOUT (out), J4 INTVCC3 (out), J5 GND (power), J6 RUN3 (in), J7 FB4 (in), K1 VOUT4, K2 VOUT4, K3 GND (power), K4 GND (power), K5 INTVCC4 (out), K6 TRACK/SS4 (in), K7 RUN4 (in), L1 GND (power), L2 GND (power), L3 VIN4 (in), L4 VIN4 (in), L5 SVIN4 (in), L6 MODE4 (in), L7 COMP4 (in)

## LTM4644_1
designator U?, comment LTM4644
MFR-PN: LTM4644EY#PBF; MFR: LINEAR TECHNOLOGY; 04. Manufacturer: Analog Devices; POPULATED: yes; 07. Manufacturer  Part Number: LTM4644EY#PBF
footprint LTM4644
pins: A1 VOUT1, A2 VOUT1, A3 VOUT1, A4 GND (power), A5 GND (power), A6 TRACK/SS1 (in), A7 FB1 (in), B1 GND (power), B2 GND (power), B3 VIN1 (in), B4 VIN1 (in), B5 SVIN1 (in), B6 MODE1 (in), B7 COMP1 (in), C1 VOUT2, C2 PGOOD2 (out), C3 PGOOD1 (out), C4 INTVCC1 (out), C5 GND (power), C6 RUN1 (in), C7 CLKIN (in), D1 VOUT2, D2 VOUT2, D3 GND (power), D4 GND (power), D5 GND (power), D6 TRACK/SS2 (in), D7 FB2 (in), E1 GND (power), E2 GND (power), E3 VIN2 (in), E4 VIN2 (in), E5 SVIN2 (in), E6 MODE2 (in), E7 COMP2 (in), F1 VOUT3, F2 PGOOD3 (out), F3 TEMP (out), F4 INTVCC2 (out), F5 GND (power), F6 RUN2 (in), F7 SGND (power), G1 VOUT3, G2 VOUT3, G3 GND (power), G4 GND (power), G5 GND (power), G6 TRACK/SS3 (in), G7 FB3 (in), H1 GND (power), H2 GND (power), H3 VIN3 (in), H4 VIN3 (in), H5 SVIN3 (in), H6 MODE3 (in), H7 COMP3 (in), J1 VOUT4, J2 PGOOD4 (out), J3 CLKOUT (out), J4 INTVCC3 (out), J5 GND (power), J6 RUN3 (in), J7 FB4 (in), K1 VOUT4, K2 VOUT4, K3 GND (power), K4 GND (power), K5 INTVCC4 (out), K6 TRACK/SS4 (in), K7 RUN4 (in), L1 GND (power), L2 GND (power), L3 VIN4 (in), L4 VIN4 (in), L5 SVIN4 (in), L6 MODE4 (in), L7 COMP4 (in)

## MAX232ACSE
designator U?, comment 07. Manufacturer  Part Number: MAX3232CUE+T  (hidden comment: U)
IC TXRX RS-232 LP 16-TSSOP; MFR-PN: MAX3232CUE+; MFR: Maxim; 04. Manufacturer: Maxim Integrated; POPULATED: yes; 03. Unit Price: 5.61; 3D-Export: No; 01. Distributor: DigiKey; 02. Distributor Part Number: MAX3232CUE+TDKR-ND; 09. Operating Temperature: 0°C ~ 70°C; 11. RoHS: YES; ComponentLink4Description: Info; ComponentLink4URL: https://www.digikey.de/products/en/integrated-circuits-ics/interface-drivers-receivers-transceivers/710?k=MAX3232CUE%2B&k=&pkeyword=MAX3232CUE%2B&sv=0&pv7=243&pv1989=0&sf=0&quantity=&ColumnSort=0&page=1&pageSize=25; ComponentLink5Description: DataSheet; ComponentLink5URL: https://datasheets.maximintegrated.com/en/ds/MAX3222-MAX3241.pdf
footprint TSSOP16
pins: 1 C1+, 2 VDD (power), 3 C1-, 4 C2+, 5 C2-, 6 VEE (power), 7 T2OUT (out), 8 R2IN (in), 9 R2OUT (out), 10 T2IN (in), 11 T1IN (in), 12 R1OUT (out), 13 R1IN (in), 14 T1OUT (out), 15 GND (power), 16 VCC (power)

## MAX3485ESA+T
designator U?, comment U  (value not drawn)
IC TRANSCEIVER FULL 1/1 8SOIC; 04. Manufacturer: Maxim Integrated; 07. Manufacturer  Part Number: MAX3490ESA+T; 03. Unit Price: 4.88; 05. Quantity: 1; 13. Created Date/Name: AUG 2018 / Hören; 3D-Export: No; 01. Distributor: Digi-Key; 02. Distributor Part Number: MAX3490ESA+TDKR-ND; 09. Operating Temperature: -40°C ~ 125°C; 11. RoHS: YES; ComponentLink1Description: Info; ComponentLink1URL: https://www.digikey.de/products/en?keywords=MAX3490ESA%2BTDKR-ND; ComponentLink2Description: DataSheet; ComponentLink2URL: https://datasheets.maximintegrated.com/en/ds/MAX3483-MAX3491.pdf; Package: SOIC8
footprint SOIC8 (R-8) (Generic 8 lead SOIC Narrow Body)
part A pins: 1 RO, 2 ~{RE}, 3 DE, 4 DI, 6 A, 7 B
part B pins: 5 GND, 8 VCC

## MAX4822
designator U?, comment U  (value not drawn)
IC PWR DRIVER N-CHAN 1:8 20TQFN; 04. Manufacturer: Maxim Integrated; 07. Manufacturer  Part Number: MAX4822ETP+; 03. Unit Price: 4.0; 01. Distributor: DigiKey; 02. Distributor Part Number: MAX4822ETP+-ND
footprint T2044-3 (20-Pin TQFN Package (4mm x 4mm))
pins: 1 ~{RESET}, 2 ~{CS}, 3 DIN, 4 SCLK, 5 DOUT, 7 GND, 8 OUT8, 9 OUT7, 10 PGND, 11 OUT6, 12 OUT5, 13 PSAVE, 14 OUT4, 15 OUT3, 16 PGND, 17 OUT2, 18 OUT1, 19 VCC, 20 ~{SET}, 21 EP

## MAX6070
designator U?, comment value MAX6070  (hidden comment: U)
Low-Noise, High-Precision Series Voltage Reference, 2.5V; MFR-PN: MAX6070BAUT25+T; MFR: MAXIM; POPULATED: yes; 3D-Export: No; 04. Manufacturer: MAXIM; 09. Operating Temperature: -40°C ~ 125°C; 11. RoHS: YES; ComponentLink4Description: Info; ComponentLink5Description: DataSheet; ComponentLink5URL: https://datasheets.maximintegrated.com/en/ds/MAX6070-MAX6071.pdf; 07. Manufacturer  Part Number: MAX6070BAUT25+T
footprint MAXIM-SOT23-6 (Footprint not found)
pins: 1 FILTER (in), 2 GND (power), 3 EN (in), 4 IN (power), 5 OUTS (in), 6 OUTF (hiz)

## MAXISCT_FIXATION_SCREW
designator MP?  (value not drawn)
ISO1207 M2.5x10; 04. Manufacturer: Likom; 07. Manufacturer  Part Number: GUIDANCE_SCREW_FEMALE; 03. Unit Price: 1
footprint MAXISCT_FIXATION_SCREW

## MDT420M01001
designator X?, comment NicName: M.2 (M-Key)  (hidden comment: X)
M.2 M-Key; 04. Manufacturer: Amphenol ICC (Commercial Products); 07. Manufacturer  Part Number: MDT420M01001; 03. Unit Price: 1.82; 13. Created Date/Name: JUN2019/ Hören; System: Connector; 3D-Export: Yes; 01. Distributor: DigiKey; 02. Distributor Part Number: MDT420M01001DKR-ND; 09. Operating Temperature: -40°C ~ 80°C; 11. RoHS: YES; ComponentLink1Description: Info; ComponentLink1URL: https://www.digikey.de/product-detail/en/amphenol-icc-commercial-products/MDT420M01001/MDT420M01001DKR-ND/5810401; ComponentLink2Description: DataSheet; ComponentLink2URL: https://signin.amphenolcanada.com/ProductSearch/pdf/MDT_BRO.pdf; ComponentLink4Description: Signal Description; ComponentLink4URL: https://media.digikey.com/pdf/Data%20Sheets/Viking%20PDFs/PSFNP5zzzzDzzz.pdf; ComponentLink5Description: M.2 Card Lengths; ComponentLink5URL: https://www.delock.de/infothek/M.2/M.2_e.html
footprint MDT420M01001 (M.2 (M-Key) Amphenol)
pins: 1 GND, 2 3.3V, 3 GND, 4 3.3V, 5 PETn3, 7 PETp3, 9 GND, 10 LED#1, 11 PERn3, 12 3.3V, 13 PERp3, 14 3.3V, 15 GND, 16 3.3V, 17 PETn2, 18 3.3V, 19 PETp2, 21 GND, 23 PERn2, 25 PERp2, 27 GND, 29 PETn1, 31 PETp1, 33 GND, 35 PERn1, 37 PERp1, 39 GND, 41 PETn0, 43 PETp0, 45 GND, 47 PERn0, 49 PERp0, 50 PERST#, 51 GND, 52 CLKREQ#, 53 REFCLKN, 54 PEWake#, 55 REFCLKP, 57 GND, 68 SUSCLK, 69 PEDET, 70 3.3V, 71 GND, 72 3.3V, 73 GND, 74 3.3V, 75 GND, 76 GND

## MicroSD Cage
designator X?, comment X  (value not drawn)
CONN MICRO SD CARD PUSH-PUSH R/A; 04. Manufacturer: Molex; 07. Manufacturer  Part Number: 5025700893; 03. Unit Price: 3.52; 13. Created Date/Name: AUG 2018 / Hören; 3D-Export: Yes; ComponentLink1Description: Info; ComponentLink1URL: https://www.digikey.de/product-detail/en/molex/5025700893/WM19093DKR-ND/1866796; ComponentLink2Description: DataSheet; ComponentLink2URL: https://www.molex.com/pdm_docs/sd/5025700893_sd.pdf; 01. Distributor: DigiKey; 02. Distributor Part Number: WM19093DKR-ND; 09. Operating Temperature: -40°C/+85°C; 11. RoHS: YES
footprint 5025700893 (MicroSD Cage (Molex))
footprint 2201778-1 (MicroSD Cage (TE/AMP))
pins: 0 Shield, 1 DAT2_RSV, 2 CD/DAT3_CS, 3 CMD_DI, 4 VDD, 5 CLK_SCLK, 6 VSS, 7 DAT0_DO, 8 DAT1_RSV, 9 SWA, 10 SWB

## MINISCT_GUIDANCE_SCREW_FEMALE
designator MP?  (value not drawn)
Guidance Screw Female, M2.5 for MiniSCT; 04. Manufacturer: Likom; 07. Manufacturer  Part Number: GUIDANCE_SCREW_FEMALE; 03. Unit Price: 1
footprint MINISCT_GUIDANCE_SCREW_FEMALE

## MOSFET-N-D
designator Q?, comment 07. Manufacturer  Part Number: BSS138K  (hidden comment: Q)
MOSFET N-CH 50V 220MA SOT-23-3; MFR: ONSEMI; 04. Manufacturer: ON Semiconductor; POPULATED: yes; 03. Unit Price: 0.36; 3D-Export: No; Revision: July-2002: Re-released for DXP Platform.; MFR-PN: BSS138K; 01. Distributor: DigiKey; 02. Distributor Part Number: BSS138KDKR-ND; 09. Operating Temperature: -55°C ~ 150°C (TJ); 11. RoHS: YES; ComponentLink4Description: Info; ComponentLink4URL: https://www.digikey.de/product-detail/en/on-semiconductor/BSS138K/BSS138KDKR-ND/2410068; ComponentLink5Description: DataSheet; ComponentLink5URL: https://www.onsemi.com/pub/Collateral/BSS138K-D.pdf
footprint SOT23 (Footprint not found)
pins: 1 G, 2 S, 3 D

## MOSFET-N-D-SO8
designator Q?, comment NicName: SiR818DP  (hidden comment: Q)
MOSFET N-CH 30V 50A PPAK SO-8; MFR: VISHAY; 04. Manufacturer: Vishay Siliconix; 07. Manufacturer  Part Number: SIR818DP-T1-GE3; POPULATED: yes; 03. Unit Price: 1.36; 3D-Export: No; Revision: July-2002: Re-released for DXP Platform.; MFR-PN: SiR818DP; 01. Distributor: DigiKey; 02. Distributor Part Number: SIR818DP-T1-GE3DKR-ND; 09. Operating Temperature: -55°C ~ 150°C (TJ); 11. RoHS: YES; ComponentLink4Description: Info; ComponentLink4URL: https://www.digikey.de/products/en/discrete-semiconductor-products/transistors-fets-mosfets-single/278?k=SiR818DP&k=&pkeyword=SiR818DP&sv=0&pv7=243&sf=0&quantity=&ColumnSort=0&page=1&pageSize=25; ComponentLink5Description: DataSheet; ComponentLink5URL: http://www.vishay.com/docs/67846/sir818dp.pdf
footprint SO8 (SOIC, 8-Leads, Body 4.9x3.9mm, Pitch 1.27mm, IPC High Density)
footprint PowerPak SO8
pins: 1 S, 2 S, 3 S, 4 G, 5 D, 6 D, 7 D, 8 D

## MT25QU01GAB
designator U?, comment 07. Manufacturer  Part Number: MT25QL512ABB8E12-0AAT  (hidden comment: U)
IC FLASH 512M SPI 24TPBGA; MFR: MICRON; 04. Manufacturer: Micron Technology Inc.; POPULATED: yes; 03. Unit Price: 8.64; 3D-Export: No; MFR-PN: MT25QL512ABB8E12-0AAT; Temperature Range: -40°C/+85°C; 01. Distributor: DigiKey; 02. Distributor Part Number: 557-1823-6-ND; 09. Operating Temperature: -40°C ~ 105°C (TA); 11. RoHS: YES; ComponentLink4Description: Info; ComponentLink4URL: https://www.digikey.de/products/en/integrated-circuits-ics/memory/774?k=MT25QL512ABB8E12-0AAT&k=&pkeyword=MT25QL512ABB8E12-0AAT&sv=0&pv7=243&sf=0&quantity=&ColumnSort=0&page=1&pageSize=25; ComponentLink5Description: DataSheet; ComponentLink5URL: https://www.micron.com/~/media/documents/products/data-sheet/nor-flash/serial-nor/mt25q/die-rev-b/mt25q_qlkt_l_512_abb_0.pdf
footprint T-PBGA24 (BGA100P9X9-81A)
pins: A4 nRESET (in), B2 C (in), B3 GND (power), B4 VCC (power), C2 S# (in), C4 W#/Vpp/DQ2 (hiz), D2 DQ1 (hiz), D3 DQ0 (hiz), D4 HOLD#/DQ3 (hiz)

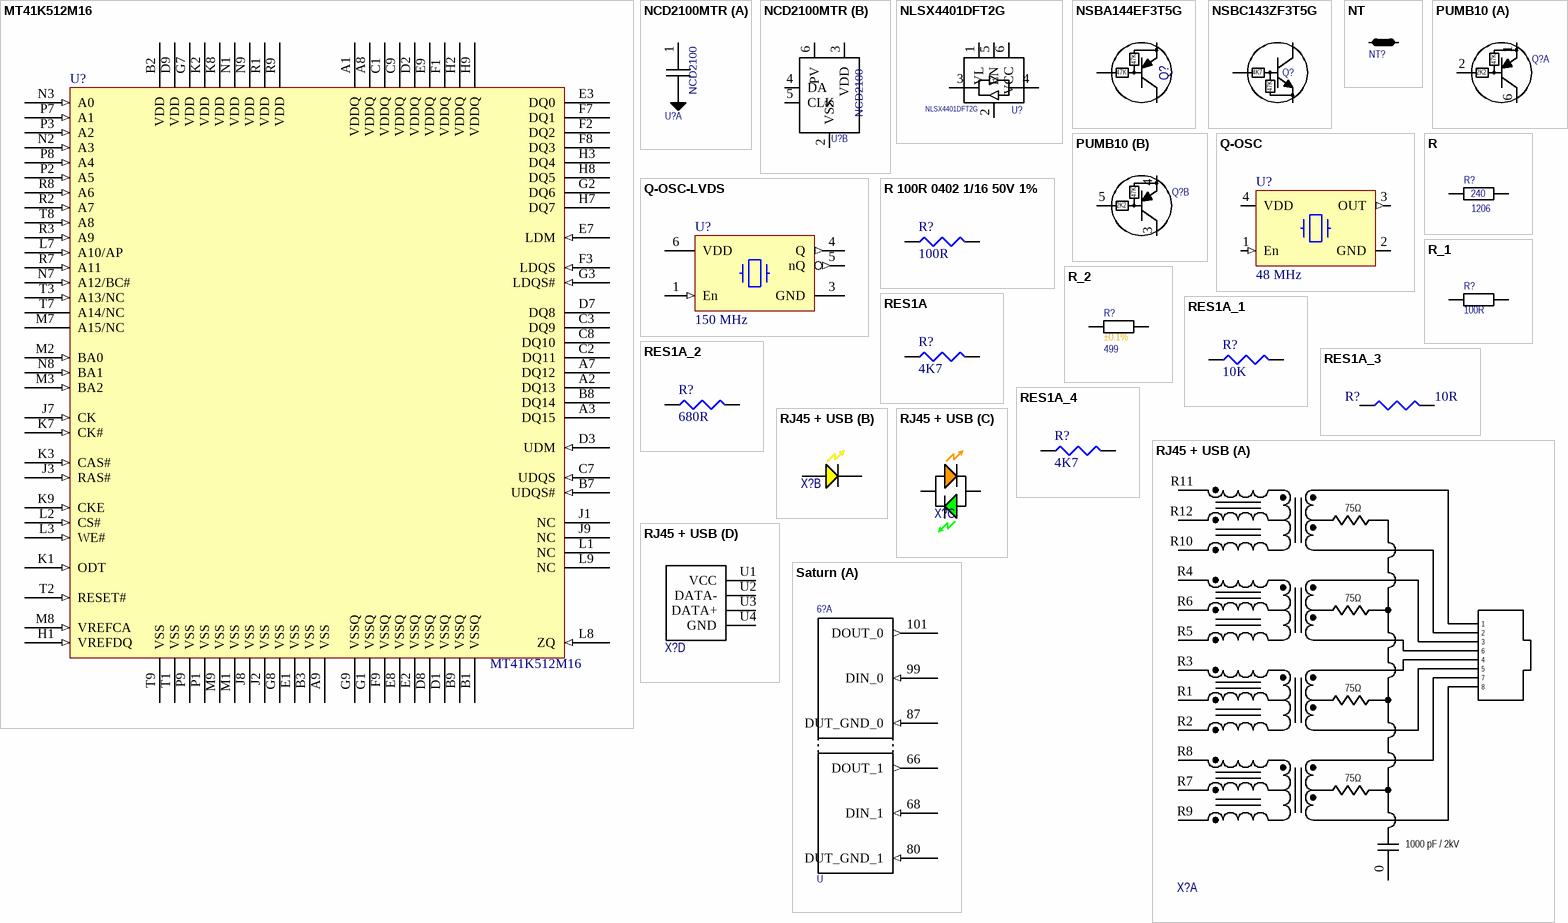
[diagram p7: symbols MT41K512M16 to Saturn]

## MT41K512M16
designator U?
TwinDie 1.35V DDR3L SDRAM, 64 Meg x 16 x 8 Banks; MFR-PN: MT41K512M16VRP-107 AAT:P; MFR: MICRON; 04. Manufacturer: Micron Technology Inc.; POPULATED: yes; 07. Manufacturer  Part Number: MT41K512M16VRP-107 AAT:P
footprint VFBGA96 (Footprint not found)
pins: A1 VDDQ (power), A2 DQ13 (hiz), A3 DQ15 (hiz), A7 DQ12 (hiz), A8 VDDQ (power), A9 VSS (power), B1 VSSQ (power), B2 VDD (power), B3 VSS (power), B7 UDQS# (in), B8 DQ14 (hiz), B9 VSSQ (power), C1 VDDQ (power), C2 DQ11 (hiz), C3 DQ9 (hiz), C7 UDQS (in), C8 DQ10 (hiz), C9 VDDQ (power), D1 VSSQ (power), D2 VDDQ (power), D3 UDM (in), D7 DQ8 (hiz), D8 VSSQ (power), D9 VDD (power), E1 VSS (power), E2 VSSQ (power), E3 DQ0 (hiz), E7 LDM (in), E8 VSSQ (power), E9 VDDQ (power), F1 VDDQ (power), F2 DQ2 (hiz), F3 LDQS (in), F7 DQ1 (hiz), F8 DQ3 (hiz), F9 VSSQ (power), G1 VSSQ (power), G2 DQ6 (hiz), G3 LDQS# (in), G7 VDD (power), G8 VSS (power), G9 VSSQ (power), H1 VREFDQ (in), H2 VDDQ (power), H3 DQ4 (hiz), H7 DQ7 (hiz), H8 DQ5 (hiz), H9 VDDQ (power), J1 NC, J2 VSS (power), J3 RAS# (in), J7 CK (in), J8 VSS (power), J9 NC, K1 ODT (in), K2 VDD (power), K3 CAS# (in), K7 CK# (in), K8 VDD (power), K9 CKE (in), L1 NC, L2 CS# (in), L3 WE# (in), L7 A10/AP (in), L8 ZQ (in), L9 NC, M1 VSS (power), M2 BA0 (in), M3 BA2 (in), M7 A15/NC, M8 VREFCA (in), M9 VSS (power), N1 VDD (power), N2 A3 (in), N3 A0 (in), N7 A12/BC# (in), N8 BA1 (in), N9 VDD (power), P1 VSS (power), P2 A5 (in), P3 A2 (in), P7 A1 (in), P8 A4 (in), P9 VSS (power), R1 VDD (power), R2 A7 (in), R3 A9 (in), R7 A11 (in), R8 A6 (in), R9 VDD (power), T1 VSS (power), T2 RESET# (in), T3 A13/NC (in), T7 A14/NC, T8 A8 (in), T9 VSS (power)

## NCD2100MTR
designator U?, comment NickName: NCD2100  (hidden comment: U)
IC DIGITAL CAPACITOR 6DFN; 04. Manufacturer: IXYS Integrated Circuits Division; 07. Manufacturer  Part Number: NCD2100MTR; 03. Unit Price: 0.89; 01. Distributor: DigiKey; 02. Distributor Part Number: CLA4143-2-ND; 09. Operating Temperature: -20°C ~ +125°C; ComponentLink1Description: Info; ComponentLink1URL: https://www.digikey.de/product-detail/en/ixys-integrated-circuits-division/NCD2100MTR/CLA4143-2-ND/4918504?cur=EUR&lang=en; ComponentLink2Description: DataSheet; ComponentLink2URL: https://www.ixysic.com/home/pdfs.nsf/www/NCD2100.pdf/$file/NCD2100.pdf
footprint DFN6 (6-DFN)
part A pins: 1 X1
part B pins: 2 VSS, 3 VDD, 4 DA, 5 CLK (power), 6 PV (power)

## NLSX4401DFT2G
designator U?, comment 07. Manufacturer  Part Number: NLSX4401DFT2G  (hidden comment: U)
IC TRANSLATOR BIDIR SC70-6; 04. Manufacturer: ON Semiconductor; 03. Unit Price: 0.12; 13. Created Date/Name: AUG 2018 / Hören; 3D-Export: No; 01. Distributor: DigiKey; 02. Distributor Part Number: NLSX4401DFT2G-ND; 09. Operating Temperature: -40°C ~ 125°C; 11. RoHS: YES; ComponentLink1Description: Info; ComponentLink1URL: https://www.digikey.de/products/en/integrated-circuits-ics/logic-translators-level-shifters/732?k=&pkeyword=&sv=0&pv1914=r1.65V+%7E+5.5V&sf=1&FV=-8%7C732%2C1915%7C331587&quantity=&ColumnSort=0&page=1&pageSize=25; ComponentLink2Description: DataSheet; ComponentLink2URL: https://www.onsemi.com/pub/Collateral/NLSX4401DFT2G-D.PDF; Package: SC70-6
footprint SC70-6
pins: 1 VL, 2 GND, 3 IOVL, 4 IOVCC, 5 EN, 6 VCC

## NSBA144EF3T5G
designator Q?, comment Q  (value not drawn)
TRANS PREBIAS PNP 254MW SOT1123; 04. Manufacturer: ON Semiconductor; 07. Manufacturer  Part Number: NSBA144EF3T5G; 03. Unit Price: 0.05222; 05. Quantity: 8000; 13. Created Date/Name: AUG 2018 / Hören; Design: AWGDIG; 3D-Export: No; 01. Distributor: DigiKey; 02. Distributor Part Number: NSBA144EF3T5G-ND; 11. RoHS: YES; ComponentLink1Description: Info; ComponentLink1URL: https://www.digikey.de/products/en?keywords=NSBA144EF3T5G; ComponentLink2Description: DataSheet; ComponentLink2URL: https://www.onsemi.com/pub/Collateral/DTA144E-D.PDF; Package: SOT-1123
footprint SOT-1123
pins: 1 Base, 2 Emitter, 3 Collector
text: 47K

## NSBC143ZF3T5G
designator Q?, comment Q  (value not drawn)
TRANS PREBIAS NPN 254MW SOT1123; 04. Manufacturer: ON Semiconductor; 07. Manufacturer  Part Number: NSBC143ZF3T5G; 03. Unit Price: 0.05222; 05. Quantity: 8000; 13. Created Date/Name: AUG 2018 / Hören; Design: AWGDIG; 3D-Export: No; 01. Distributor: DigiKey; 02. Distributor Part Number: NSBC143ZF3T5G-ND; 11. RoHS: YES; ComponentLink1Description: Info; ComponentLink1URL: https://www.digikey.de/products/en/discrete-semiconductor-products/transistors-bipolar-bjt-single-pre-biased/292?k=&pkeyword=&pv16=8403&sf=1&FV=mu4.7+kOhms%7C2184%2Cmu47+kOhms%7C2185%2Cffe00124%2C128002c&quantity=&ColumnSort=0&page=1&pageSize=25; ComponentLink2Description: DataSheet; ComponentLink2URL: https://www.onsemi.com/pub/Collateral/DTC143Z-D.PDF; Package: SOT-1123
footprint SOT-1123
pins: 1 Base, 2 Emitter, 3 Collector
text: 4K7; 47K

## NT
designator NT?  (value not drawn)  (net tie, no BOM)
Net Tie; 13. Created Date/Name: AUG2018/Hören; 3D-Export: No; 01. Distributor: N/A; 02. Distributor Part Number: N/A; 03. Unit Price: N/A; 04. Manufacturer: N/A; 05. Quantity: N/A; 06. Data Sheet: N/A; 07. Manufacturer  Part Number: N/A; 08. Inhouse Stock: N/A; 09. Operating Temperature: N/A; 10. Weight: N/A; 11. RoHS: N/A; 12.UL94 Flammability: N/A; ComponentLink1Description: Info; ComponentLink2Description: DataSheet
footprint NT0201 (10 mil)
footprint NT0402 (20 mil)
footprint NT0603 (40 mil)
footprint NT0805 (50 mil)
footprint NT1206 (60 mil)
footprint NT1210 (100 mil)
footprint NT (3mm Ø 1.6mm)
pins: 1, 2

## PUMB10
designator Q?, comment Q  (value not drawn)
TRANS PREBIAS 2NPN 50V 6TSSOP; 04. Manufacturer: Nexperia USA Inc.; 07. Manufacturer  Part Number: PUMB10,115; 03. Unit Price: 0.03; 01. Distributor: DigiKey; 02. Distributor Part Number: 1727-6297-2-ND; ComponentLink1Description: Info; ComponentLink1URL: https://www.digikey.de/product-detail/en/nexperia-usa-inc/PUMB10-115/1727-6297-2-ND/1157837; ComponentLink2Description: DataSheet; ComponentLink2URL: https://assets.nexperia.com/documents/data-sheet/PEMB10_PUMB10.pdf
footprint SOT363[SC-88] (SOT363 / SC-88 Reflow soldering footprint, 2x2.1 mm (WxH) incl. leads)
part A pins: 1 Emitter, 2 Base, 6 Collector
part B pins: 3 Collector, 4 Emitter, 5 Base
part A text: 47K; 2K2
part B text: 47K; 2K2

## Q-OSC
designator U?, comment value 48 MHz  (hidden comment: U)
XTAL OSC XO 48.0000MHZ CMOS SMD; MFR-PN: 48.000MHz XO53050UCTB; MFR: EUROQUARTZ; 04. Manufacturer: Abracon LLC; 07. Manufacturer  Part Number: ASE-48.000MHZ-LC-T; POPULATED: yes; 03. Unit Price: 1.04; 3D-Export: No; 01. Distributor: DigiKey; 02. Distributor Part Number: 535-9576-6-ND; 09. Operating Temperature: -40°C ~ 85°C; 11. RoHS: YES
footprint XTAL5x3.2
pins: 1 En (in), 2 GND (power), 3 OUT (out), 4 VDD (power)

## Q-OSC-LVDS
designator U?, comment value 150 MHz  (hidden comment: U)
XTAL OSC 150MHZ 2.5V LVDS; MFR-PN: ALD-2-150MHz-V; MFR: ABRACON; 04. Manufacturer: Abracon LLC; 07. Manufacturer  Part Number: AX7DBF1-150.0000C; POPULATED: yes; 03. Unit Price: 6.68; 3D-Export: No; 01. Distributor: Mouser; 02. Distributor Part Number: 815-AX7DBF1-150C; 09. Operating Temperature: -40*C~85*C; 11. RoHS: YES; ComponentLink4Description: Info; ComponentLink4URL: https://www.mouser.de/ProductDetail/ABRACON/AX7DBF1-1500000C?qs=%2Fha2pyFaduiK9TUdAIPBGeIizm4hQB%252BoPFL%252BNyNXjpm9TaM4qkNWPg%3D%3D; ComponentLink5Description: DataSheet; ComponentLink5URL: https://www.mouser.de/datasheet/2/3/AX7_clearclock-1280643.pdf
footprint XTAL5x7-6 (Footprint not found)
pins: 1 En (in), 3 GND (power), 4 Q (out), 5 nQ (out), 6 VDD (power)

## R
designator R?  value 240  Package: 1206  (hidden comment: R)
Resistor; 04. Manufacturer: Yageo; 07. Manufacturer  Part Number: RC1206FR-07240RL; 03. Unit Price: 0.08; Power Rating: 1/4W; Voltage Rating: 50V; Tolerance: ±1%; ComponentLink1Description: Info; 02. Distributor Part Number: 311-240FRDKR-ND; 09. Operating Temperature: -55°C ~ 155°C; 11. RoHS: YES; 01. Distributor: DigiKey; ComponentLink2Description: DataSheet; Type: Thick Film
simulation model RESISTOR (Resistor)
signal-integrity model Res
footprint RESC0201 (Chip Resistor, Body 0.6x0.3mm (LxW typ) [0201], IPC High Density)
footprint RESC0402 (Chip Resistor, Body 1.1x0.5mm (LxW typ) [0402], IPC High Density)
footprint RESC0603 (Chip Resistor, Body 1.6x0.8mm (LxW typ) [0603], IPC High Density)
footprint RESC0805 (Chip Resistor, Body 2.0x1.3mm (LxW typ) [0805], IPC High Density)
footprint RESC1020 (Chip Resistor, Body 2.5x5.0mm (LxW typ) [1020])
footprint RESC1206 (Chip Resistor, Body 3.2x1.6mm (LxW typ) [1206], IPC High Density)
footprint RESC2512 (Chip Resistor, Body 6.3x3.2mm (LxW typ) [2512], IPC High Density)
pins: 1, 2

## R 100R 0402 1/16 50V 1%
designator R?, comment 100R
100R 0402 1/16 50V 1%; MFR-PN: RC0402FR-07100RL; MFR: Yageo; partnumber: 19091122; Parameters: 1/16W, 50V, 1%; reviewer: mah; T op max.: +155°C; T op min.: -55°C; created by: Moerz; package: R0402; articlenumber-schoelly: N/A; Supplier 1: Mouser; Supplier Part Number 1: 603-RC0402FR-07100RL; Value: 100R; ComponentLink1Description: Datasheet; ComponentLink1URL: https://www.yageo.com/upload/media/product/productsearch/datasheet/rchip/PYu-RC_Group_51_RoHS_L_10.pdf
footprint RESC0402 (Chip Resistor, Body 1.1x0.5mm (LxW typ) [0402], IPC High Density)
pins: 1, 2

## R_1
designator R?, comment value 100R  (hidden comment: R)
RES SMD 100 OHM 1% 1/16W 0402; 04. Manufacturer: Yageo; 07. Manufacturer  Part Number: RC0402FR-07100RL; 03. Unit Price: 0.09; 13. Created Date/Name: AUG2018/Hören; Voltage Rating: 50V; 3D-Export: No; Tolerance: ±1%; ComponentLink1URL: https://www.digikey.de/product-detail/en/yageo/RC0402FR-07100RL/311-100LRDKR-ND/732421; ComponentLink1Description: Info; 02. Distributor Part Number: 311-100LRDKR-ND; 09. Operating Temperature: -55°C ~ 155°C; 11. RoHS: YES; 01. Distributor: DigiKey; ComponentLink2Description: DataSheet; ComponentLink2URL: http://www.yageo.com/documents/recent/PYu-RC_Group_51_RoHS_L_10.pdf; Type: Thick Film; Power Rating: 1/16W; Temperature Range: -55°C/+125°C
simulation model RESISTOR (Resistor)
signal-integrity model Res
footprint RESC0402 (Chip Resistor, Body 1.1x0.5mm (LxW typ) [0402], IPC High Density)
pins: 1, 2
1 alternate drawing of the same symbol